# Altium schematic symbol library Sim800board.SchLib: 28 symbols
Pins are listed as number, name and electrical type; pins without a type are passive.

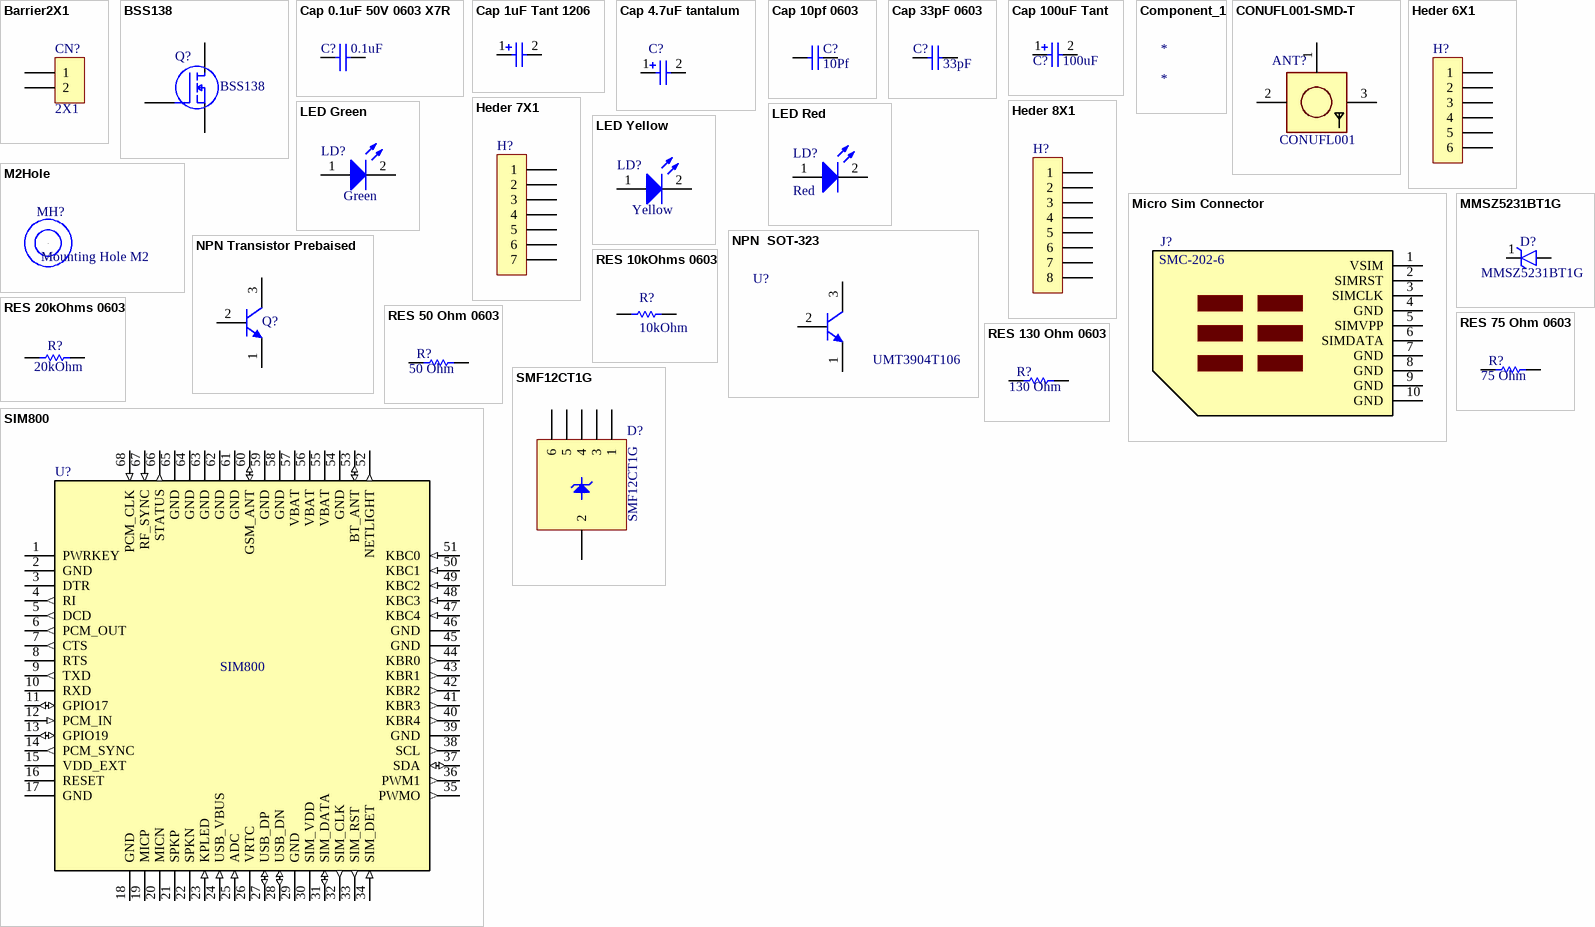
[diagram p0: symbols Barrier2X1 to SMF12CT1G]

## Barrier2X1
designator CN?, comment 2X1
Power Connector; ComponentLink1Description: link to store; ComponentLink1URL: https://uge-one.com/screw-terminal-block-2-pole-5-0mm.html
footprint Barrier2X1
pins: 1, 2

## BSS138
designator Q?
MOSFET N-CH 50V 220MA SOT-23; Manufacturer: ON Semiconductor / Fairchild; Element Configuration: Single; Rds On Max: 3.5R; Input Capacitance: 27pF; Max Power Dissipation: 360mW; Rise Time: 9ns; Turn-Off Delay Time: 20ns; Gate to Source Voltage (Vgs): 20V; Turn-On Delay Time: 2.5ns; Number of Elements: 1; Threshold Voltage: 1.3V; On-State Resistance: 6R; Supplier 1: Mouser; Manufacturer Part Number: BSS138; Stock 1: 897837; Pricing 1: 1 = 0.26000, 10 = 0.17800, 50 = 0.17800, 100 = 0.07400, 1000 = 0.05000, 3000 = 0.03900, 9000 = 0.03300, 10000 = 0.03300, 24000 = 0.03100, 45000 = 0.02900 (USD); RoHS: Yes; Mount: Surface Mount; Case/Package: SOT-23; Number of Pins: 3; Weight: 0.03g; Contact Plating: Tin,Matte; Min Operating Temperature: -55°C; Max Operating Temperature: 150°C; Packaging: Tape and Reel; Continuous Drain Current (ID): 220mA; Drain to Source Voltage (Vdss): 50V; Drain to Source Breakdown Voltage: 50V; Fall Time: 9ns; Drain to Source Resistance: 3.5R; Package Quantity: 1; Power Dissipation: 360mW; Voltage Rating (DC): 50V; Current Rating: 220mA; Nominal Vgs: 1.3V; Dual Supply Voltage: 50V; Termination: SMD/SMT; Length: 2.92mm; Height: 0.93mm; Width: 1.3mm; Radiation Hardening: No; Lead Free: Lead Free; REACH SVHC: No SVHC; ComponentLink1URL: https://datasheet.ciiva.com/931/bss138-931776.pdf?src-supplier=Digi-Key; ComponentLink1Description: https://datasheet.ciiva.com/931/bss138-931776.pdf?src-supplier=Digi-Key; ComponentLink2URL: https://datasheet.ciiva.com/1190/193736-1190130.pdf?src-supplier=Element14; ComponentLink2Description: https://datasheet.ciiva.com/1190/193736-1190130.pdf?src-supplier=Element14; ComponentLink3URL: https://datasheet.ciiva.com/1190/193736-1190131.pdf?src-supplier=Element14; ComponentLink3Description: https://datasheet.ciiva.com/1190/193736-1190131.pdf?src-supplier=Element14; ComponentLink4URL: https://datasheet.ciiva.com/1254/193736-1254983.pdf?src-supplier=Newark; ComponentLink4Description: https://datasheet.ciiva.com/1254/193736-1254983.pdf?src-supplier=Newark; ComponentLink5URL: https://datasheet.ciiva.com/3304/bss138-3304424.pdf?src-supplier=Avnet; ComponentLink5Description: https://datasheet.ciiva.com/3304/bss138-3304424.pdf?src-supplier=Avnet; ComponentLink6URL: https://datasheet.ciiva.com/22655/193736-22655240.pdf?src-supplier=Element14; ComponentLink6Description: https://datasheet.ciiva.com/22655/193736-22655240.pdf?src-supplier=Element14; ComponentLink7URL: https://datasheet.ciiva.com/16834/bss138-16834843.pdf?src-supplier=Future+Electronics; ComponentLink7Description: https://datasheet.ciiva.com/16834/bss138-16834843.pdf?src-supplier=Future+Electronics; ComponentLink8URL: https://datasheet.ciiva.com/27050/784896-27050043.pdf?src-supplier=Jameco; ComponentLink8Description: https://datasheet.ciiva.com/27050/784896-27050043.pdf?src-supplier=Jameco; ComponentLink9URL: https://datasheet.ciiva.com/26229/bss138-26229007.pdf?src-supplier=Avnet+Europe; ComponentLink9Description: https://datasheet.ciiva.com/26229/bss138-26229007.pdf?src-supplier=Avnet+Europe; Supplier Part Number 1: 512-BSS138
pins: 1 G, 2 D, 3 S

## Cap 0.1uF 50V 0603 X7R
designator C?, comment 0.1uF
Cap Ceramic 0.1uF 50V X7R 5% SMD 0603 125C Paper T/R. CC0603JPX7R9BB104; Manufacturer: Yageo; Capacitance: 100nF; Supplier 1: Mouser; Manufacturer Part Number: CC0603JPX7R9BB104; Stock 1: 581901; Pricing 1: 1 = 0.13000, 10 = 0.06800, 50 = 0.06800, 100 = 0.03100, 1000 = 0.02500, 2500 = 0.01900, 10000 = 0.01800, 15000 = 0.01700, 45000 = 0.01600, 90000 = 0.01300 (USD); RoHS: Yes; Case/Package: 0603; Min Operating Temperature: -55°C; Max Operating Temperature: 125°C; Tolerance: 5%; Packaging: Tape and Reel; Dielectric: X7R; Length: 1.6mm; Depth: 0.8mm; ComponentLink1URL: http://components.arrow.com/part/dataview/0323_02951817?src-supplier=Arrow+Europe; ComponentLink1Description: http://components.arrow.com/part/dataview/0323_02951817?src-supplier=Arrow+Europe; Supplier Part Number 1: 603-CC0603JPX79BB104
footprint 0603Cap (Chip Capacitor, Body 1.6x0.8mm, Height 1.0mm, IPC Medium Density)
pins: 1, 2

## Cap 1uF Tant 1206
designator C?, comment 1uF  (value not drawn)
1µF Molded Tantalum Capacitors 35V 1206 (3216 Metric) 7.5Ohm @ 100kHz; Manufacturer: Kyocera AVX; Manufacturer Part Number: TAJA105K035TNJ; Stock 1: 22047; Pricing 1: 1 = 0.43000, 10 = 0.29700, 50 = 0.29700, 100 = 0.13400, 1000 = 0.11300, 2000 = 0.09300, 10000 = 0.09300 (USD); RoHS: No; ComponentLink1URL: http://datasheets.avx.com/TAJ_AUTO.pdf?src-supplier=Digi-Key; ComponentLink1Description: http://datasheets.avx.com/TAJ_AUTO.pdf?src-supplier=Digi-Key; Supplier 1: Mouser; Supplier Part Number 1: 581-TAJA105K035TNJ
footprint C1206 (Cap 1206 tantalum)
pins: 1, 2

## Cap 4.7uF tantalum
designator C?, comment 4.7uF  (value not drawn)
CAP TANT 4.7UF 10% 16V 1206,TAJA475K016RNJ; Manufacturer: Kyocera AVX; Dielectric Material: Tantalum; ESR (Equivalent Series Resistance): 4R; Leakage Current: 800nA; Polarity: Polar; Dissipation Factor: 6%; Manufacturer Part Number: TAJA475K016RNJ; Stock 1: 424346; Pricing 1: 1 = 0.41000, 10 = 0.28200, 100 = 0.16910, 500 = 0.12678, 1000 = 0.10707 (USD); RoHS: Yes; Mount: Surface Mount; Case/Package: 1206; Number of Pins: 2; Case Code (Metric): 3216; Case Code (Imperial): 1206; Min Operating Temperature: -55°C; Max Operating Temperature: 125°C; Package Quantity: 1; Capacitance: 4.7uF; Voltage Rating: 16V; Tolerance: 10%; Packaging: Tape and Reel; Voltage Rating (DC): 16V; Termination: SMD/SMT; Voltage: 16V; Features: General Purpose; Length: 3.2mm; Height: 1.6mm; Width: 1.6mm; Height - Seated (Max): 0.071inch; Depth: 1.6mm; Lead Pitch: 1.1mm; Radiation Hardening: No; REACH SVHC: No SVHC; Lead Free: Lead Free; ComponentLink1URL: https://datasheet.ciiva.com/26341/559419-da-01-en-tacc-a-3-2-mm-x-1-6-mm-x-1-6-mm-4-7-uf-26341760.pdf?src-supplier=Conrad; ComponentLink1Description: https://datasheet.ciiva.com/26341/559419-da-01-en-tacc-a-3-2-mm-x-1-6-mm-x-1-6-mm-4-7-uf-26341760.pdf?src-supplier=Conrad; ComponentLink2URL: https://datasheet.ciiva.com/263/taj-263377.pdf?src-supplier=Digi-Key; ComponentLink2Description: https://datasheet.ciiva.com/263/taj-263377.pdf?src-supplier=Digi-Key; ComponentLink3URL: https://datasheet.ciiva.com/263/taj-263378.pdf?src-supplier=Digi-Key; ComponentLink3Description: https://datasheet.ciiva.com/263/taj-263378.pdf?src-supplier=Digi-Key; ComponentLink4URL: https://datasheet.ciiva.com/14604/70001050-14604501.pdf?src-supplier=Allied+Electronics; ComponentLink4Description: https://datasheet.ciiva.com/14604/70001050-14604501.pdf?src-supplier=Allied+Electronics; ComponentLink5URL: https://datasheet.ciiva.com/18710/taj-eng-18710646.pdf?src-supplier=Distrelec; ComponentLink5Description: https://datasheet.ciiva.com/18710/taj-eng-18710646.pdf?src-supplier=Distrelec; ComponentLink6URL: https://datasheet.ciiva.com/3004/taj-3004411.pdf?src-supplier=Avnet; ComponentLink6Description: https://datasheet.ciiva.com/3004/taj-3004411.pdf?src-supplier=Avnet; ComponentLink7URL: https://datasheet.ciiva.com/3004/taj-3004412.pdf?src-supplier=Avnet; ComponentLink7Description: https://datasheet.ciiva.com/3004/taj-3004412.pdf?src-supplier=Avnet; ComponentLink8URL: https://datasheet.ciiva.com/7914/taj-7914556.pdf?src-supplier=Element14; ComponentLink8Description: https://datasheet.ciiva.com/7914/taj-7914556.pdf?src-supplier=Element14; ComponentLink9URL: https://datasheet.ciiva.com/5934/13070-5934925.pdf?src-supplier=Farnell; ComponentLink9Description: https://datasheet.ciiva.com/5934/13070-5934925.pdf?src-supplier=Farnell; ComponentLink10URL: https://datasheet.ciiva.com/16199/taj-16199151.pdf?src-supplier=Future+Electronics; ComponentLink10Description: https://datasheet.ciiva.com/16199/taj-16199151.pdf?src-supplier=Future+Electronics; ComponentLink11URL: https://datasheet.ciiva.com/263/taj-263376.pdf?src-supplier=Digi-Key; ComponentLink11Description: https://datasheet.ciiva.com/263/taj-263376.pdf?src-supplier=Digi-Key; ComponentLink12URL: https://datasheet.ciiva.com/12883/taj-27497-12883126.pdf?src-supplier=Mouser; ComponentLink12Description: https://datasheet.ciiva.com/12883/taj-27497-12883126.pdf?src-supplier=Mouser; ComponentLink13URL: https://datasheet.ciiva.com/14608/70001050-14608696.pdf?src-supplier=Allied+Electronics; ComponentLink13Description: https://datasheet.ciiva.com/14608/70001050-14608696.pdf?src-supplier=Allied+Electronics; ComponentLink14URL: https://datasheet.ciiva.com/7914/1680476-7914555.pdf?src-supplier=Element14; ComponentLink14Description: https://datasheet.ciiva.com/7914/1680476-7914555.pdf?src-supplier=Element14; Supplier 1: Mouser; Supplier Part Number 1: 581-TAJA475K016R
footprint C1206 (Cap 1206 tantalum)
pins: 1, 2

## Cap 10pf 0603
designator C?, comment 10Pf
Multilayer Ceramic Capacitors MLCC - SMD/SMT 16V 10pF 0603 X7R 0.1; Manufacturer: KEMET; Manufacturer Part Number: C0603C100K4RACTU; Supplier 1: Mouser; Stock 1: 14682; Pricing 1: 1 = 0.24000, 10 = 0.12500, 50 = 0.12500, 100 = 0.07600, 1000 = 0.05900, 10000 = 0.04200 (USD); RoHS: No; Supplier Part Number 1: 80-C0603C100K4RACTU
footprint 0603Cap (Chip Capacitor, Body 1.6x0.8mm, Height 1.0mm, IPC Medium Density)
pins: 1, 2

## Cap 33pF 0603
designator C?, comment 33pF
Multilayer Ceramic Capacitors MLCC - SMD/SMT 50V 33pF 0603 X8R 20%; Manufacturer: KEMET; Manufacturer Part Number: C0603C330M5HACTU; Supplier 1: Mouser; Stock 1: 39000; Pricing 1: 1 = 0.10000, 10 = 0.01700, 50 = 0.01700, 100 = 0.01200, 1000 = 0.00800, 10000 = 0.00600 (USD); RoHS: No; Supplier Part Number 1: 80-C0603C330M5HACTU
footprint 0603Cap (Chip Capacitor, Body 1.6x0.8mm, Height 1.0mm, IPC Medium Density)
pins: 1, 2

## Cap 100uF Tant
designator C?, comment 100uF
Manufacturer: Kyocera AVX; Manufacturer Part Number: TAJA105K035TNJ; Voltage Rating (DC): 25V; Tolerance: 20%; Stock 1: 22047; Pricing 1: 1 = 0.43000, 10 = 0.29700, 50 = 0.29700, 100 = 0.13400, 1000 = 0.11300, 2000 = 0.09300, 10000 = 0.09300 (USD); RoHS: No; ComponentLink1URL: http://datasheets.avx.com/TAJ_AUTO.pdf?src-supplier=Digi-Key; ComponentLink1Description: http://datasheets.avx.com/TAJ_AUTO.pdf?src-supplier=Digi-Key; Stock 2: 1935; Pricing 2: 1 = 3.18000, 10 = 2.57000, 50 = 2.57000, 100 = 1.96000, 250 = 1.59000, 500 = 1.46000, 1000 = 1.28000, 1500 = 1.10000, 4500 = 1.06000, 9000 = 1.05000, 10000 = 1.06000 (USD); Capacitance: 100uF; Lead Free: Lead Free
footprint Tanat Case D
pins: 1, 2

## Component_1
designator *

## CONUFL001-SMD-T
designator ANT?, comment CONUFL001
CONN UMC JACK STR SMD; Manufacturer: Linx; Manufacturer Part Number: CONUFL001-SMD-T; Supplier 1: Mouser; Stock 1: 8451; Pricing 1: 1 = 0.62000, 10 = 0.59000, 50 = 0.57000, 100 = 0.53000, 1000 = 0.44000, 10000 = 0.37800 (USD); RoHS: No; ComponentLink1URL: https://media.digikey.com/pdf/Data%20Sheets/Linx%20Technologies%20PDFs/CONUFL001-SMD_T_Dwg_RevB_5-15-17.pdf?src-supplier=Digi-Key; ComponentLink1Description: https://media.digikey.com/pdf/Data%20Sheets/Linx%20Technologies%20PDFs/CONUFL001-SMD_T_Dwg_RevB_5-15-17.pdf?src-supplier=Digi-Key; Supplier Part Number 1: 712-CONUFL001-SMD-T
footprint UFL
pins: 1, 2, 3

## Heder 6X1
designator H?
footprint Header6X1
pins: 1, 2, 3, 4, 5, 6

## Heder 7X1
designator H?
footprint Header 7X1
pins: 1, 2, 3, 4, 5, 6, 7

## Heder 8X1
designator H?
footprint Header 8X1
pins: 1, 2, 3, 4, 5, 6, 7, 8

## LED Green
designator LD?, comment Green
LED GREEN DIFFUSED 0603 SMD; Manufacturer: Rohm; Manufacturer Part Number: SML-D12M8WT86; Lens Color: White; Forward Current: 20mA; Forward Voltage: 2.2V; Luminous Intensity: 25mcd; Viewing Angle: 160°; Dominant Wavelength: 572nm; Number of LEDs: 1; Supplier 1: Digi-Key; Stock 1: 140294; Pricing 1: 1 = 0.34000, 10 = 0.25100, 25 = 0.18480, 100 = 0.13200, 250 = 0.08976, 500 = 0.07920, 1000 = 0.06204 (USD); RoHS: Yes; Mount: Surface Mount; Case/Package: 0603; Number of Pins: 2; Color: Green; Case Code (Metric): 1608; Case Code (Imperial): 0603; Min Operating Temperature: -40°C; Max Operating Temperature: 85°C; Illumination Color: Green; Packaging: Tape and Reel; Lens Style: Diffused; Package Quantity: 1; Test Current: 20mA; Lens Transparency: Diffused; Wavelength: 572nm; Length: 1.6mm; Height: 0.65mm; Width: 0.8mm; Radiation Hardening: No; REACH SVHC: Unknown; Lead Free: Lead Free; ComponentLink1URL: https://datasheet.ciiva.com/11774/0900766b80df3ada-11774260.pdf?src-supplier=RSComponents; ComponentLink1Description: https://datasheet.ciiva.com/11774/0900766b80df3ada-11774260.pdf?src-supplier=RSComponents; ComponentLink2URL: https://datasheet.ciiva.com/3161/sml-d1-3161419.pdf?src-supplier=Avnet; ComponentLink2Description: https://datasheet.ciiva.com/3161/sml-d1-3161419.pdf?src-supplier=Avnet; ComponentLink3URL: https://datasheet.ciiva.com/2110/sml-d1-2110396.pdf?src-supplier=Digi-Key; ComponentLink3Description: https://datasheet.ciiva.com/2110/sml-d1-2110396.pdf?src-supplier=Digi-Key; ComponentLink4URL: https://datasheet.ciiva.com/2110/sml-d1-2110397.pdf?src-supplier=Digi-Key; ComponentLink4Description: https://datasheet.ciiva.com/2110/sml-d1-2110397.pdf?src-supplier=Digi-Key; ComponentLink5URL: https://datasheet.ciiva.com/2110/sml-d1-2110398.pdf?src-supplier=Digi-Key; ComponentLink5Description: https://datasheet.ciiva.com/2110/sml-d1-2110398.pdf?src-supplier=Digi-Key; Supplier Part Number 1: 511-1578-1-ND
footprint 0603D-G (LED, SMT, Body 1.6 x 0.8 mm, 0.25mm Thickness)
pins: 1 A, 2 K

## LED Red
designator LD?, comment Red
LED RED DIFFUSED 1608 SMD; Manufacturer: Rohm; Manufacturer Part Number: SML-D12U1WT86; Lens Color: White; Luminous Intensity: 63mcd; Test Current: 20mA; Dominant Wavelength: 620nm; Forward Voltage: 2.2V; Stock 1: 100645; Pricing 1: 1 = 0.22000, 10 = 0.16200, 25 = 0.11920, 100 = 0.08530, 250 = 0.05796, 500 = 0.05116, 1000 = 0.04007 (USD); RoHS: Yes; Mount: Surface Mount; Case/Package: 0603; Color: Red; Case Code (Metric): 1608; Case Code (Imperial): 0603; Packaging: Tape and Reel; Lens Transparency: Diffused; Length: 1.6mm; Height: 0.65mm; Width: 0.8mm; Lead Free: Lead Free; ComponentLink1URL: https://www.rohm.com/datasheet/SML-D12U1W?src-supplier=Digi-Key; ComponentLink1Description: https://www.rohm.com/datasheet/SML-D12U1W?src-supplier=Digi-Key; Supplier 1: Mouser; Supplier Part Number 1: 755-SML-D12U1WT86
footprint 0603D-R (LED, SMT, Body 1.6 x 0.8 mm, 0.25mm Thickness)
pins: 1 A, 2 K

## LED Yellow
designator LD?, comment Yellow
LED YELLOW DIFFUSED 0603 SMD; Manufacturer: Rohm; Manufacturer Part Number: SML-D12Y8WT86; Lens Color: White; Lens Style: Rectangular; Forward Voltage: 2.2V; Luminous Intensity: 63mcd; Forward Current: 20mA; Viewing Angle: 160°; Dominant Wavelength: 590nm; Number of LEDs: 1; Stock 1: 214; Pricing 1: 1 = 0.34000, 10 = 0.25100, 25 = 0.18480, 100 = 0.13200, 250 = 0.08976, 500 = 0.07920, 1000 = 0.06204 (USD); RoHS: Yes; Mount: Surface Mount; Case/Package: 0603; Number of Pins: 2; Color: Yellow; Case Code (Metric): 1608; Case Code (Imperial): 0603; Min Operating Temperature: -40°C; Max Operating Temperature: 85°C; Package Quantity: 1; Packaging: Tape and Reel; Illumination Color: Yellow; Test Current: 20mA; Lens Transparency: Diffused; Wavelength: 590nm; Length: 1.6mm; Height: 0.65mm; Width: 0.8mm; Radiation Hardening: No; Lead Free: Lead Free; ComponentLink1URL: https://datasheet.ciiva.com/11774/0900766b80df3ada-11774475.pdf?src-supplier=RSComponents; ComponentLink1Description: https://datasheet.ciiva.com/11774/0900766b80df3ada-11774475.pdf?src-supplier=RSComponents; ComponentLink2URL: https://datasheet.ciiva.com/17419/sml-d1-17419897.pdf?src-supplier=Avnet+Europe; ComponentLink2Description: https://datasheet.ciiva.com/17419/sml-d1-17419897.pdf?src-supplier=Avnet+Europe; ComponentLink3URL: https://datasheet.ciiva.com/2115/sml-d1-2115067.pdf?src-supplier=Digi-Key; ComponentLink3Description: https://datasheet.ciiva.com/2115/sml-d1-2115067.pdf?src-supplier=Digi-Key; ComponentLink4URL: https://datasheet.ciiva.com/2115/sml-d1-2115068.pdf?src-supplier=Digi-Key; ComponentLink4Description: https://datasheet.ciiva.com/2115/sml-d1-2115068.pdf?src-supplier=Digi-Key; ComponentLink5URL: https://datasheet.ciiva.com/2115/sml-d1-2115069.pdf?src-supplier=Digi-Key; ComponentLink5Description: https://datasheet.ciiva.com/2115/sml-d1-2115069.pdf?src-supplier=Digi-Key; ComponentLink6URL: https://datasheet.ciiva.com/3161/sml-d1-3161421.pdf?src-supplier=Avnet; ComponentLink6Description: https://datasheet.ciiva.com/3161/sml-d1-3161421.pdf?src-supplier=Avnet; ComponentLink7URL: https://datasheet.ciiva.com/16289/sml-d1-16289838.pdf?src-supplier=Future+Electronics; ComponentLink7Description: https://datasheet.ciiva.com/16289/sml-d1-16289838.pdf?src-supplier=Future+Electronics; Supplier 1: Mouser; Supplier Part Number 1: 755-SML-D12Y8WT86
footprint 0603D-y (LED, SMT, Body 1.6 x 0.8 mm, 0.25mm Thickness)
pins: 1 A, 2 K

## M2Hole
designator MH?, comment Mounting Hole M2  (no BOM)
footprint M2Hole
pins: 0

## Micro Sim Connector
designator J?, comment SMC-202-6
ComponentLink1Description: on aliexpress; ComponentLink1URL: https://www.aliexpress.com/item/32960690078.html?spm=a2g0o.productlist.0.0.735f2bb6q422g4&algo_pvid=1909d03e-9bfc-4d5c-b848-f6211606a0a0&algo_expid=1909d03e-9bfc-4d5c-b848-f6211606a0a0-4&btsid=6ccb498c-0190-470a-a4c7-741ec023e9fd&ws_ab_test=searchweb0_0,searchweb201602_,searchweb201603_53
footprint Micro SIM Connector
pins: 1 VSIM, 2 SIMRST, 3 SIMCLK, 4 GND, 5 SIMVPP, 6 SIMDATA, 7 GND, 8 GND, 9 GND, 10 GND

## MMSZ5231BT1G
designator D?
DIODE ZENER 5.1V 500MW SOD123; Manufacturer: ON Semiconductor; Material: Plastic; Tolerance: 5%; Forward Voltage: 900mV; Impedance: 17R; Max Reverse Leakage Current: 5uA; Zener Current: 10mA; Test Current: 20mA; Element Configuration: Single; Breakdown Voltage: 5.36V; Supplier 1: Mouser; Manufacturer Part Number: MMSZ5231BT1G; Stock 1: 48448; Pricing 1: 1 = 0.20000, 10 = 0.18900, 50 = 0.18900, 100 = 0.06600, 1000 = 0.04400, 3000 = 0.03300, 9000 = 0.02900, 10000 = 0.02900, 24000 = 0.02600, 45000 = 0.02300, 99000 = 0.02100 (USD); RoHS: Yes; Case/Package: SOD-123-2; Number of Pins: 2; Min Operating Temperature: -55°C; Max Operating Temperature: 150°C; Max Power Dissipation: 500mW; Package Quantity: 1; Packaging: Tape and Reel; Zener Voltage: 5.1V; Voltage Tolerance: 5%; Power Dissipation: 500mW; Working Voltage: 5.1V; Peak Reverse Current: 5uA; Voltage Rating (DC): 5.1V; Power Rating: 500mW; Length: 0.111inch; Height: 0.053inch; Width: 0.071inch; Radiation Hardening: No; REACH SVHC: No SVHC; Lead Free: Lead Free; ComponentLink1URL: https://datasheet.ciiva.com/23815/1708301-23815376.pdf?src-supplier=Newark; ComponentLink1Description: https://datasheet.ciiva.com/23815/1708301-23815376.pdf?src-supplier=Newark; ComponentLink2URL: https://datasheet.ciiva.com/894/mmsz5221bt1-d-894881.pdf?src-supplier=Digi-Key; ComponentLink2Description: https://datasheet.ciiva.com/894/mmsz5221bt1-d-894881.pdf?src-supplier=Digi-Key; ComponentLink3URL: https://datasheet.ciiva.com/894/mmsz5221bt1-d-894882.pdf?src-supplier=Digi-Key; ComponentLink3Description: https://datasheet.ciiva.com/894/mmsz5221bt1-d-894882.pdf?src-supplier=Digi-Key; ComponentLink4URL: https://datasheet.ciiva.com/894/mmsz5221bt1-d-894883.pdf?src-supplier=Digi-Key; ComponentLink4Description: https://datasheet.ciiva.com/894/mmsz5221bt1-d-894883.pdf?src-supplier=Digi-Key; ComponentLink5URL: https://datasheet.ciiva.com/16200/mmsz5221bt1-d-16200104.pdf?src-supplier=Future+Electronics; ComponentLink5Description: https://datasheet.ciiva.com/16200/mmsz5221bt1-d-16200104.pdf?src-supplier=Future+Electronics; ComponentLink6URL: https://datasheet.ciiva.com/4731/mmsz5221bt1-d-4731452.pdf?src-supplier=Mouser; ComponentLink6Description: https://datasheet.ciiva.com/4731/mmsz5221bt1-d-4731452.pdf?src-supplier=Mouser; ComponentLink7URL: https://datasheet.ciiva.com/22626/1708301-22626967.pdf?src-supplier=Element14; ComponentLink7Description: https://datasheet.ciiva.com/22626/1708301-22626967.pdf?src-supplier=Element14; ComponentLink8URL: https://datasheet.ciiva.com/25928/mmsz5221bt1-d-25928103.pdf?src-supplier=Avnet+Europe; ComponentLink8Description: https://datasheet.ciiva.com/25928/mmsz5221bt1-d-25928103.pdf?src-supplier=Avnet+Europe; Supplier Part Number 1: 863-MMSZ5231BT1G
footprint SOD-123 (Diode)
pins: 1, 2

## NPN  SOT-323
designator U?, comment UMT3904T106
TRANS NPN 40V 0.2A SOT-323; Manufacturer: Rohm; Max Power Dissipation: 200mW; hFE Min: 40; Max Collector Current: 200mA; Transition Frequency: 300MHz; Polarity: PNP; Collector Base Voltage (VCBO): 60V; Emitter Base Voltage (VEBO): 6V; Collector Emitter Saturation Voltage: 300mV; Element Configuration: Single; Supplier 1: Mouser; Manufacturer Part Number: UMT3904T106; Stock 1: 23310; Pricing 1: 1 = 0.38000, 10 = 0.25900, 50 = 0.25900, 100 = 0.10800, 1000 = 0.07400, 3000 = 0.05800, 9000 = 0.04900, 10000 = 0.04900, 24000 = 0.04600, 45000 = 0.04400, 99000 = 0.03800 (USD); RoHS: Yes; Mount: Surface Mount; Case/Package: SOT-346; Number of Pins: 3; Min Operating Temperature: -55°C; Max Operating Temperature: 150°C; Packaging: Tape and Reel; Package Quantity: 1; Collector Emitter Voltage (VCEO): 40V; Collector Emitter Breakdown Voltage: 40V; Max Breakdown Voltage: 40V; Continuous Collector Current: 200mA; Gain Bandwidth Product: 300MHz; Voltage Rating (DC): 40V; Current Rating: 200mA; Radiation Hardening: No; REACH SVHC: No SVHC; Lead Free: Lead Free; ComponentLink1URL: https://datasheet.ciiva.com/5782/1645419-5782067.pdf?src-supplier=Farnell; ComponentLink1Description: https://datasheet.ciiva.com/5782/1645419-5782067.pdf?src-supplier=Farnell; ComponentLink2URL: https://datasheet.ciiva.com/8029/1645419-8029414.pdf?src-supplier=Element14; ComponentLink2Description: https://datasheet.ciiva.com/8029/1645419-8029414.pdf?src-supplier=Element14; ComponentLink3URL: https://datasheet.ciiva.com/973/umt3904-973399.pdf?src-supplier=Digi-Key; ComponentLink3Description: https://datasheet.ciiva.com/973/umt3904-973399.pdf?src-supplier=Digi-Key; ComponentLink4URL: https://datasheet.ciiva.com/973/umt3904-973400.pdf?src-supplier=Digi-Key; ComponentLink4Description: https://datasheet.ciiva.com/973/umt3904-973400.pdf?src-supplier=Digi-Key; ComponentLink5URL: https://datasheet.ciiva.com/973/umt3904-973401.pdf?src-supplier=Digi-Key; ComponentLink5Description: https://datasheet.ciiva.com/973/umt3904-973401.pdf?src-supplier=Digi-Key; Supplier Part Number 1: 755-UMT3904T106
footprint Sot 323
pins: 1 E, 2 B, 3 C

## NPN Transistor Prebaised
designator Q?, comment DTC143ZU3HZGT106  (value not drawn)
Bipolar Transistors - Pre-Biased NPN 50V 0.1A 4.7kO SOT-323; Manufacturer: Rohm; Supplier 1: Mouser; Manufacturer Part Number: DTC143ZU3HZGT106; Stock 1: 4628; Pricing 1: 1 = 0.32000, 10 = 0.21600, 50 = 0.21600, 100 = 0.09000, 1000 = 0.06200, 3000 = 0.04800, 10000 = 0.04800 (USD); RoHS: No; Supplier Part Number 1: 755-DTC143ZU3HZGT106
footprint Sot 323
pins: 1 E, 2 B, 3 C

## RES 10kOhms 0603
designator R?, comment 10kOhm
RES SMD 10K OHM 1% 1/4W 0603; Manufacturer: Rohm; Manufacturer Part Number: ESR03EZPF1002; Resistance: 10kR; Power Rating: 250mW; Temperature Coefficient: 100ppm/°C; Stock 1: 222376; Pricing 1: 1 = 0.13000, 10 = 0.12000, 100 = 0.04620, 1000 = 0.02033, 2500 = 0.01756 (USD); RoHS: Yes; Case/Package: 0603; Case Code (Metric): 1608; Case Code (Imperial): 0603; Min Operating Temperature: -55°C; Max Operating Temperature: 155°C; Tolerance: 1%; Package Quantity: 1; Packaging: Tape and Reel; Composition: Thick Film; Number of Terminations: 2; Max Power Dissipation: 250mW; Features: Automotive AEC-Q200; Length: 0.063inch; Height: 0.022inch; Width: 0.031inch; Lead Free: Lead Free; ComponentLink1URL: https://datasheet.ciiva.com/2469/esr-2469709.pdf?src-supplier=Digi-Key; ComponentLink1Description: https://datasheet.ciiva.com/2469/esr-2469709.pdf?src-supplier=Digi-Key; ComponentLink2URL: https://datasheet.ciiva.com/2469/esr-2469710.pdf?src-supplier=Digi-Key; ComponentLink2Description: https://datasheet.ciiva.com/2469/esr-2469710.pdf?src-supplier=Digi-Key; ComponentLink3URL: https://datasheet.ciiva.com/2469/esr-2469711.pdf?src-supplier=Digi-Key; ComponentLink3Description: https://datasheet.ciiva.com/2469/esr-2469711.pdf?src-supplier=Digi-Key; Supplier 1: Mouser; Supplier Part Number 1: 755-ESR03EZPF1002
footprint 0603R (Chip Resistor, Body 1.6x0.8mm, IPC Medium Density)
pins: 1, 2

## RES 20kOhms 0603
designator R?, comment 20kOhm
RES SMD 10K OHM 1% 1/4W 0603; Manufacturer: Rohm; Manufacturer Part Number: ESR03EZPF1002; Resistance: 10kR; Power Rating: 250mW; Temperature Coefficient: 100ppm/°C; Stock 1: 222376; Pricing 1: 1 = 0.13000, 10 = 0.12000, 100 = 0.04620, 1000 = 0.02033, 2500 = 0.01756 (USD); RoHS: Yes; Case/Package: 0603; Case Code (Metric): 1608; Case Code (Imperial): 0603; Min Operating Temperature: -55°C; Max Operating Temperature: 155°C; Tolerance: 1%; Package Quantity: 1; Packaging: Tape and Reel; Composition: Thick Film; Number of Terminations: 2; Max Power Dissipation: 250mW; Features: Automotive AEC-Q200; Length: 0.063inch; Height: 0.022inch; Width: 0.031inch; Lead Free: Lead Free; ComponentLink1URL: https://datasheet.ciiva.com/2469/esr-2469709.pdf?src-supplier=Digi-Key; ComponentLink1Description: https://datasheet.ciiva.com/2469/esr-2469709.pdf?src-supplier=Digi-Key; ComponentLink2URL: https://datasheet.ciiva.com/2469/esr-2469710.pdf?src-supplier=Digi-Key; ComponentLink2Description: https://datasheet.ciiva.com/2469/esr-2469710.pdf?src-supplier=Digi-Key; ComponentLink3URL: https://datasheet.ciiva.com/2469/esr-2469711.pdf?src-supplier=Digi-Key; ComponentLink3Description: https://datasheet.ciiva.com/2469/esr-2469711.pdf?src-supplier=Digi-Key; Supplier 1: Mouser; Supplier Part Number 1: 755-ESR03EZPF1002
footprint 0603R (Chip Resistor, Body 1.6x0.8mm, IPC Medium Density)
pins: 1, 2

## RES 50 Ohm 0603
designator R?, comment 50 Ohm
Manufacturer: Rohm; Manufacturer Part Number: ESR03EZPJ131; Resistance: 130R; Tolerance: 5%; Temperature Coefficient: 200ppm/°C; Max Power Dissipation: 250mW; Supplier 1: Mouser; Stock 1: 12117; Pricing 1: 1 = 0.10000, 10 = 0.07100, 50 = 0.07100, 100 = 0.02500, 1000 = 0.01700, 10000 = 0.01100 (USD); RoHS: Yes; Case/Package: 0603; Case Code (Metric): 1608; Case Code (Imperial): 0603; Min Operating Temperature: -55°C; Max Operating Temperature: 155°C; Package Quantity: 1; Packaging: Tape and Reel; Composition: Thick Film; Number of Terminations: 2; Features: Automotive AEC-Q200; Length: 0.063inch; Height: 0.022inch; Width: 0.031inch; ComponentLink1URL: https://datasheet.ciiva.com/2515/esr-2515857.pdf?src-supplier=Digi-Key; ComponentLink1Description: https://datasheet.ciiva.com/2515/esr-2515857.pdf?src-supplier=Digi-Key; ComponentLink2URL: https://datasheet.ciiva.com/2515/esr-2515858.pdf?src-supplier=Digi-Key; ComponentLink2Description: https://datasheet.ciiva.com/2515/esr-2515858.pdf?src-supplier=Digi-Key; ComponentLink3URL: https://datasheet.ciiva.com/2515/esr-2515859.pdf?src-supplier=Digi-Key; ComponentLink3Description: https://datasheet.ciiva.com/2515/esr-2515859.pdf?src-supplier=Digi-Key; Supplier Part Number 1: 755-ESR03EZPJ131
footprint 0603R (Chip Resistor, Body 1.6x0.8mm, IPC Medium Density)
pins: 1, 2

## RES 75 Ohm 0603
designator R?, comment 75 Ohm
Manufacturer: Rohm; Manufacturer Part Number: ESR03EZPJ131; Resistance: 130R; Tolerance: 5%; Temperature Coefficient: 200ppm/°C; Max Power Dissipation: 250mW; Supplier 1: Mouser; Stock 1: 12117; Pricing 1: 1 = 0.10000, 10 = 0.07100, 50 = 0.07100, 100 = 0.02500, 1000 = 0.01700, 10000 = 0.01100 (USD); RoHS: Yes; Case/Package: 0603; Case Code (Metric): 1608; Case Code (Imperial): 0603; Min Operating Temperature: -55°C; Max Operating Temperature: 155°C; Package Quantity: 1; Packaging: Tape and Reel; Composition: Thick Film; Number of Terminations: 2; Features: Automotive AEC-Q200; Length: 0.063inch; Height: 0.022inch; Width: 0.031inch; ComponentLink1URL: https://datasheet.ciiva.com/2515/esr-2515857.pdf?src-supplier=Digi-Key; ComponentLink1Description: https://datasheet.ciiva.com/2515/esr-2515857.pdf?src-supplier=Digi-Key; ComponentLink2URL: https://datasheet.ciiva.com/2515/esr-2515858.pdf?src-supplier=Digi-Key; ComponentLink2Description: https://datasheet.ciiva.com/2515/esr-2515858.pdf?src-supplier=Digi-Key; ComponentLink3URL: https://datasheet.ciiva.com/2515/esr-2515859.pdf?src-supplier=Digi-Key; ComponentLink3Description: https://datasheet.ciiva.com/2515/esr-2515859.pdf?src-supplier=Digi-Key; Supplier Part Number 1: 755-ESR03EZPJ131
footprint 0603R (Chip Resistor, Body 1.6x0.8mm, IPC Medium Density)
pins: 1, 2

## RES 130 Ohm 0603
designator R?, comment 130 Ohm
RES SMD 130 OHM 5% 1/4W 0603; Manufacturer: Rohm; Manufacturer Part Number: ESR03EZPJ131; Resistance: 130R; Temperature Coefficient: 200ppm/°C; Max Power Dissipation: 250mW; Supplier 1: Mouser; Stock 1: 12117; Pricing 1: 1 = 0.10000, 10 = 0.07100, 50 = 0.07100, 100 = 0.02500, 1000 = 0.01700, 10000 = 0.01100 (USD); RoHS: Yes; Case/Package: 0603; Case Code (Metric): 1608; Case Code (Imperial): 0603; Min Operating Temperature: -55°C; Max Operating Temperature: 155°C; Package Quantity: 1; Tolerance: 5%; Packaging: Tape and Reel; Composition: Thick Film; Number of Terminations: 2; Features: Automotive AEC-Q200; Length: 0.063inch; Height: 0.022inch; Width: 0.031inch; ComponentLink1URL: https://datasheet.ciiva.com/2515/esr-2515857.pdf?src-supplier=Digi-Key; ComponentLink1Description: https://datasheet.ciiva.com/2515/esr-2515857.pdf?src-supplier=Digi-Key; ComponentLink2URL: https://datasheet.ciiva.com/2515/esr-2515858.pdf?src-supplier=Digi-Key; ComponentLink2Description: https://datasheet.ciiva.com/2515/esr-2515858.pdf?src-supplier=Digi-Key; ComponentLink3URL: https://datasheet.ciiva.com/2515/esr-2515859.pdf?src-supplier=Digi-Key; ComponentLink3Description: https://datasheet.ciiva.com/2515/esr-2515859.pdf?src-supplier=Digi-Key; Supplier Part Number 1: 755-ESR03EZPJ131
footprint 0603R (Chip Resistor, Body 1.6x0.8mm, IPC Medium Density)
pins: 1, 2

## SIM800
designator U?
complete Quad-band GSM/GPRS solution in a SMT type which can be embedded in the customer applications.; ComponentLink1Description: Component Link; ComponentLink1URL: https://simcom.ee/modules/gsm-gprs/sim800/
footprint SIMCom_SIM800
pins: 1 PWRKEY (power), 2 GND (power), 3 DTR, 4 RI (out), 5 DCD (out), 6 PCM_OUT (out), 7 CTS (out), 8 RTS, 9 TXD (out), 10 RXD, 11 GPIO17 (io), 12 PCM_IN (in), 13 GPIO19 (io), 14 PCM_SYNC (out), 15 VDD_EXT (power), 16 RESET, 17 GND (power), 18 GND (power), 19 MICP, 20 MICN, 21 SPKP, 22 SPKN, 23 KPLED (in), 24 USB_VBUS (in), 25 ADC (in), 26 VRTC (power), 27 USB_DP (io), 28 USB_DN (io), 29 GND (power), 30 SIM_VDD (power), 31 SIM_DATA (io), 32 SIM_CLK (out), 33 SIM_RST (out), 34 SIM_DET (in), 35 PWMO (out), 36 PWM1 (out), 37 SDA (io), 38 SCL (out), 39 GND (power), 40 KBR4 (out), 41 KBR3 (out), 42 KBR2 (out), 43 KBR1 (out), 44 KBR0 (out), 45 GND (power), 46 GND (power), 47 KBC4 (in), 48 KBC3 (in), 49 KBC2 (in), 50 KBC1 (in), 51 KBC0 (in), 52 NETLIGHT (out), 53 BT_ANT (io), 54 GND (power), 55 VBAT (power), 56 VBAT (power), 57 VBAT (power), 58 GND (power), 59 GND (power), 60 GSM_ANT (io), 61 GND (power), 62 GND (power), 63 GND (power), 64 GND (power), 65 GND (power), 66 STATUS (out), 67 RF_SYNC (in), 68 PCM_CLK (in)

## SMF12CT1G
designator D?
TVS DIODE 12V 23V SC88; Manufacturer: ON Semiconductor; Direction: Unidirectional; Breakdown Voltage: 13.3V; Leakage Current: 100nA; Max Surge Current: 6A; Number of Channels: 5; Peak Pulse Power: 100W; Power Line Protection: No; Max Breakdown Voltage: 7.2V; Element Configuration: Common Anode; ESD Protection: Yes; Test Current: 1mA; Max Reverse Leakage Current: 5uA; Supplier 1: Mouser; Manufacturer Part Number: SMF12CT1G; Stock 1: 7670; Pricing 1: 1 = 0.46000, 10 = 0.32200, 50 = 0.32200, 100 = 0.14800, 1000 = 0.11400, 3000 = 0.09700, 9000 = 0.08900, 10000 = 0.08900, 24000 = 0.08300, 45000 = 0.07400, 99000 = 0.07100 (USD); RoHS: Yes; Case/Package: SC; Number of Pins: 6; Contact Plating: Tin,Matte; Min Operating Temperature: -40°C; Max Operating Temperature: 125°C; Package Quantity: 1; Packaging: Tape and Reel; Polarity: Unidirectional; Clamping Voltage: 23V; Reverse Standoff Voltage: 12V; Working Voltage: 12V; Operating Supply Voltage: 12V; Termination: SMD/SMT; Number of Unidirectional Channels: 5; Min Breakdown Voltage: 13.3V; Power Dissipation: 100W; Voltage Rating (DC): 12V; Peak Pulse Current: 6A; Composition: Zener; Length: 2mm; Height: 1mm; Depth: 1.25mm; Width: 1.35mm; Radiation Hardening: No; Lead Free: Lead Free; ComponentLink1URL: https://datasheet.ciiva.com/4513/smf05c-d-100912-4513248.pdf?src-supplier=Mouser; ComponentLink1Description: https://datasheet.ciiva.com/4513/smf05c-d-100912-4513248.pdf?src-supplier=Mouser; ComponentLink2URL: https://datasheet.ciiva.com/25957/smf05c-d-25957369.pdf?src-supplier=Avnet+Europe; ComponentLink2Description: https://datasheet.ciiva.com/25957/smf05c-d-25957369.pdf?src-supplier=Avnet+Europe; ComponentLink3URL: https://datasheet.ciiva.com/11193/smf05c-d-11193402.pdf?src-supplier=Avnet; ComponentLink3Description: https://datasheet.ciiva.com/11193/smf05c-d-11193402.pdf?src-supplier=Avnet; ComponentLink4URL: https://datasheet.ciiva.com/353/smf05c-d-353902.pdf?src-supplier=Digi-Key; ComponentLink4Description: https://datasheet.ciiva.com/353/smf05c-d-353902.pdf?src-supplier=Digi-Key; ComponentLink5URL: https://datasheet.ciiva.com/353/smf05c-d-353903.pdf?src-supplier=Digi-Key; ComponentLink5Description: https://datasheet.ciiva.com/353/smf05c-d-353903.pdf?src-supplier=Digi-Key; Supplier Part Number 1: 863-SMF12CT1G
footprint SOT-363
pins: 1, 2, 3, 4, 5, 6